# Altium schematic symbol library 74HC1G125-Q100.SchLib: 1 symbol
Pins are listed as number, name and electrical type; pins without a type are passive.

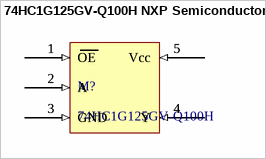
[diagram p0: symbol 74HC1G125GV-Q100H NXP Semiconductors]

## 74HC1G125GV-Q100H NXP Semiconductors
designator M?, comment 74HC1G125GV-Q100H
Bus Driver, HC/UH Series, 1-Func, 1-Bit, True Output, CMOS, PDSO5; Supply Voltage-Max: 6V; Supply Voltage-Min: 2V; Supply Voltage-Nominal: 5V; ComponentLink1Description: New link; ComponentLink1URL: https://www.snapeda.com/parts/74HC1G125GV-Q100H/Nexperia/view-part/?welcome=home&ref=octopart; Surface Mount: Yes
footprint SOT95P275X110-5N
pins: 1 OE (in), 1 OE (in), 2 A (in), 2 A (in), 3 GND (in), 3 GND (in), 4 Y (in), 4 Y (in), 5 Vcc (in), 5 Vcc (in)